# Altium schematic symbol library Resistors.SchLib: 20 symbols
Pins are listed as number, name and electrical type; pins without a type are passive.

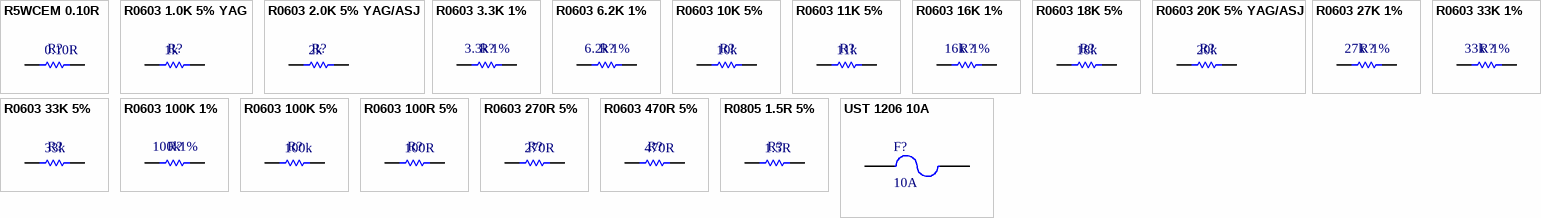
[diagram p0: symbols R5WCEM 0.10R to UST 1206 10A]

## R5WCEM 0.10R
designator R?  value 0.10R  (hidden comment: *)
Resistor; Part number: PRW05WJ010KB00; Manufacturer: UNI OHM; Tolerance: 5%; Power rating: 5W; Supplier 1: Farnell; Operating temperature: -55°C ~ +155°C
simulation model Resistor
signal-integrity model Resistor
footprint PRW05W
pins: 1, 2

## R0603 1.0K 5% YAG
designator R?  value 1k  (hidden comment: *)
Resistor; Part number: R0603 2.0K 5% YAG/ASJ; Manufacturer: UNI OHM; Tolerance: 5%; Power rating: 1/10W; Supplier 1: Farnell; Operating temperature: -55°C ~ +155°C
simulation model Resistor
signal-integrity model Resistor
footprint R0603
pins: 1, 2

## R0603 2.0K 5% YAG/ASJ
designator R?  value 2k  (hidden comment: *)
Resistor; Part number: R0603 2.0K 5% YAG/ASJ; Manufacturer: UNI OHM; Tolerance: 5%; Power rating: 1/10W; Supplier 1: Farnell; Operating temperature: -55°C ~ +155°C
simulation model Resistor
signal-integrity model Resistor
footprint R0603
pins: 1, 2

## R0603 3.3K 1%
designator R?  value 3.3k  Tolerance: 1%  (hidden comment: *)
Resistor; Part number: 0603SAF0333T50; Manufacturer: UNI OHM; Power rating: 1/10W; Supplier 1: Farnell; Operating temperature: -55°C ~ +155°C
simulation model Resistor
signal-integrity model Resistor
footprint R0603
pins: 1, 2

## R0603 6.2K 1%
designator R?  value 6.2k  Tolerance: 1%  (hidden comment: *)
Resistor; Part number: 0603SAF0333T50; Manufacturer: UNI OHM; Power rating: 1/10W; Supplier 1: Farnell; Operating temperature: -55°C ~ +155°C
simulation model Resistor
signal-integrity model Resistor
footprint R0603
pins: 1, 2

## R0603 10K 5%
designator R?  value 10k  (hidden comment: *)
Resistor; Tolerance: 5%; Power rating: 1/10W; Supplier 1: Farnell; Operating temperature: -55°C ~ +155°C
simulation model Resistor
signal-integrity model Resistor
footprint R0603
pins: 1, 2

## R0603 11K 5%
designator R?  value 11k  (hidden comment: *)
Resistor; Part number: 0603SAJ0471T50; Manufacturer: UNI OHM; Tolerance: 5%; Power rating: 1/10W; Supplier 1: Farnell; Operating temperature: -55°C ~ +155°C
simulation model Resistor
signal-integrity model Resistor
footprint R0603
pins: 1, 2

## R0603 16K 1%
designator R?  value 16k  Tolerance: 1%  (hidden comment: *)
Resistor; Part number: 0603SAF0333T50; Manufacturer: UNI OHM; Power rating: 1/10W; Supplier 1: Farnell; Operating temperature: -55°C ~ +155°C
simulation model Resistor
signal-integrity model Resistor
footprint R0603
pins: 1, 2

## R0603 18K 5%
designator R?  value 18k  (hidden comment: *)
Resistor; Part number: 0603SAJ0471T50; Manufacturer: UNI OHM; Tolerance: 5%; Power rating: 1/10W; Supplier 1: Farnell; Operating temperature: -55°C ~ +155°C
simulation model Resistor
signal-integrity model Resistor
footprint R0603
pins: 1, 2

## R0603 20K 5% YAG/ASJ
designator R?  value 20k  (hidden comment: *)
Resistor; Part number: R0603 20K 5% YAG/ASJ; Manufacturer: UNI OHM; Tolerance: 5%; Power rating: 1/10W; Supplier 1: Farnell; Operating temperature: -55°C ~ +155°C
simulation model Resistor
signal-integrity model Resistor
footprint R0603
pins: 1, 2

## R0603 27K 1%
designator R?  value 27k  Tolerance: 1%  (hidden comment: *)
Resistor; Part number: 0603SAF0273T50; Manufacturer: UNI OHM; Power rating: 1/10W; Supplier 1: Farnell; Operating temperature: -55°C ~ +155°C
simulation model Resistor
signal-integrity model Resistor
footprint R0603
pins: 1, 2

## R0603 33K 1%
designator R?  value 33k  Tolerance: 1%  (hidden comment: *)
Resistor; Part number: 0603SAF0333T50; Manufacturer: UNI OHM; Power rating: 1/10W; Supplier 1: Farnell; Operating temperature: -55°C ~ +155°C
simulation model Resistor
signal-integrity model Resistor
footprint R0603
pins: 1, 2

## R0603 33K 5%
designator R?  value 33k  (hidden comment: *)
Resistor; Part number: 0603SAJ0333T50; Manufacturer: UNI OHM; Tolerance: 5%; Power rating: 1/10W; Supplier 1: Farnell; Operating temperature: -55°C ~ +155°C
simulation model Resistor
signal-integrity model Resistor
footprint R0603
pins: 1, 2

## R0603 100K 1%
designator R?  value 100k  Tolerance: 1%  (hidden comment: *)
Resistor; Part number: 0603SAF0104T50; Manufacturer: UNI OHM; Power rating: 1/10W; Supplier 1: Farnell; Operating temperature: -55°C ~ +155°C
simulation model Resistor
signal-integrity model Resistor
footprint R0603
pins: 1, 2

## R0603 100K 5%
designator R?  value 100k  (hidden comment: *)
Resistor; Part number: R0603 2.0K 5% YAG/ASJ; Manufacturer: UNI OHM; Tolerance: 5%; Power rating: 1/10W; Supplier 1: Farnell; Operating temperature: -55°C ~ +155°C
simulation model Resistor
signal-integrity model Resistor
footprint R0603
pins: 1, 2

## R0603 100R 5%
designator R?  value 100R  (hidden comment: *)
Resistor; Part number: 0603SAJ0101T50; Manufacturer: UNI OHM; Tolerance: 5%; Power rating: 1/10W; Supplier 1: Farnell; Operating temperature: -55°C ~ +155°C
simulation model Resistor
signal-integrity model Resistor
footprint R0603
pins: 1, 2

## R0603 270R 5%
designator R?  value 270R  (hidden comment: *)
Resistor; Tolerance: 5%; Power rating: 1/10W; Supplier 1: Farnell; Operating temperature: -55°C ~ +155°C
simulation model Resistor
signal-integrity model Resistor
footprint R0603
pins: 1, 2

## R0603 470R 5%
designator R?  value 470R  (hidden comment: *)
Resistor; Part number: 0603SAJ0471T50; Manufacturer: UNI OHM; Tolerance: 5%; Power rating: 1/10W; Supplier 1: Farnell; Operating temperature: -55°C ~ +155°C
simulation model Resistor
signal-integrity model Resistor
footprint R0603
pins: 1, 2

## R0805 1.5R 5%
designator R?  value 1.5R  (hidden comment: *)
Resistor; Part number: 0805S8J015JT50; Manufacturer: UNI OHM; Tolerance: 5%; Power rating: 1/10W; Supplier 1: Comet; Operating temperature: -55°C ~ +155°C
simulation model Resistor
signal-integrity model Resistor
footprint R0805
pins: 1, 2

## UST 1206 10A
designator F?, comment 10A
Fuse; Published: 8-Jun-2000; LatestRevisionDate: 17-Jul-2002; LatestRevisionNote: Re-released for DXP Platform.; Publisher: Altium Limited; PackageDescription: *1206
footprint FUSE1206
pins: 1, 2